# EAGLE library part SWD_10PIN_NEEDLE_CONN (library o2sensor_misc_parts)
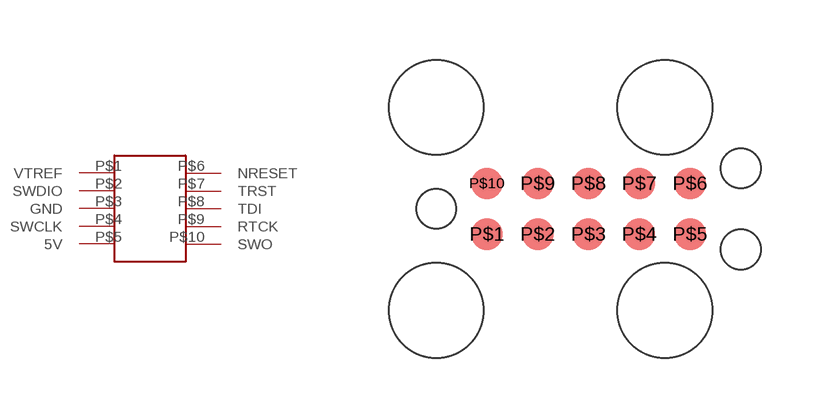
[diagram p1: symbol with the pads of SWD_10PIN_NEEDLE; footprint SWD_10PIN_NEEDLE]

Designator prefix -

## SWD_10PIN_NEEDLE_CONN  [SWD_10PIN_NEEDLE]
P$1  VTREF  pas
P$2  SWDIO  pas
P$3  GND  pas
P$4  SWCLK  pas
P$5  5V  pas
P$6  NRESET  pas
P$7  TRST  pas
P$8  TDI  pas
P$9  RTCK  pas
P$10  SWO  pas

## Footprint SWD_10PIN_NEEDLE (pad centres in mm)
smd 0.787 x 0.787: P$1 1.27,1.905; P$2 2.54,1.905; P$3 3.81,1.905; P$4 5.08,1.905; P$5 6.35,1.905; P$6 6.35,3.175; P$7 5.08,3.175; P$8 3.81,3.175; P$9 2.54,3.175; P$10 1.27,3.175
hole 2.375 at 0,5.08
hole 2.375 at 0,0
hole 2.375 at 5.715,5.08
hole 2.375 at 5.715,0
hole 0.991 at 0,2.54
hole 0.991 at 7.62,3.556
hole 0.991 at 7.62,1.524